# Altium footprint library LH_Traffic_Lignt_V2.0.PcbLib: 49 footprints (part 3 of 4)
Each footprint in its own frame and in the unit in brackets; x right, y up, seen from the top. Pads: shape width x height; smd on the part's side, far side on the other; paste and mask are expansions set on the pad; w line width, h text height; cw(c..) or ccw(c..) is an arc to the next point about the centre after c.
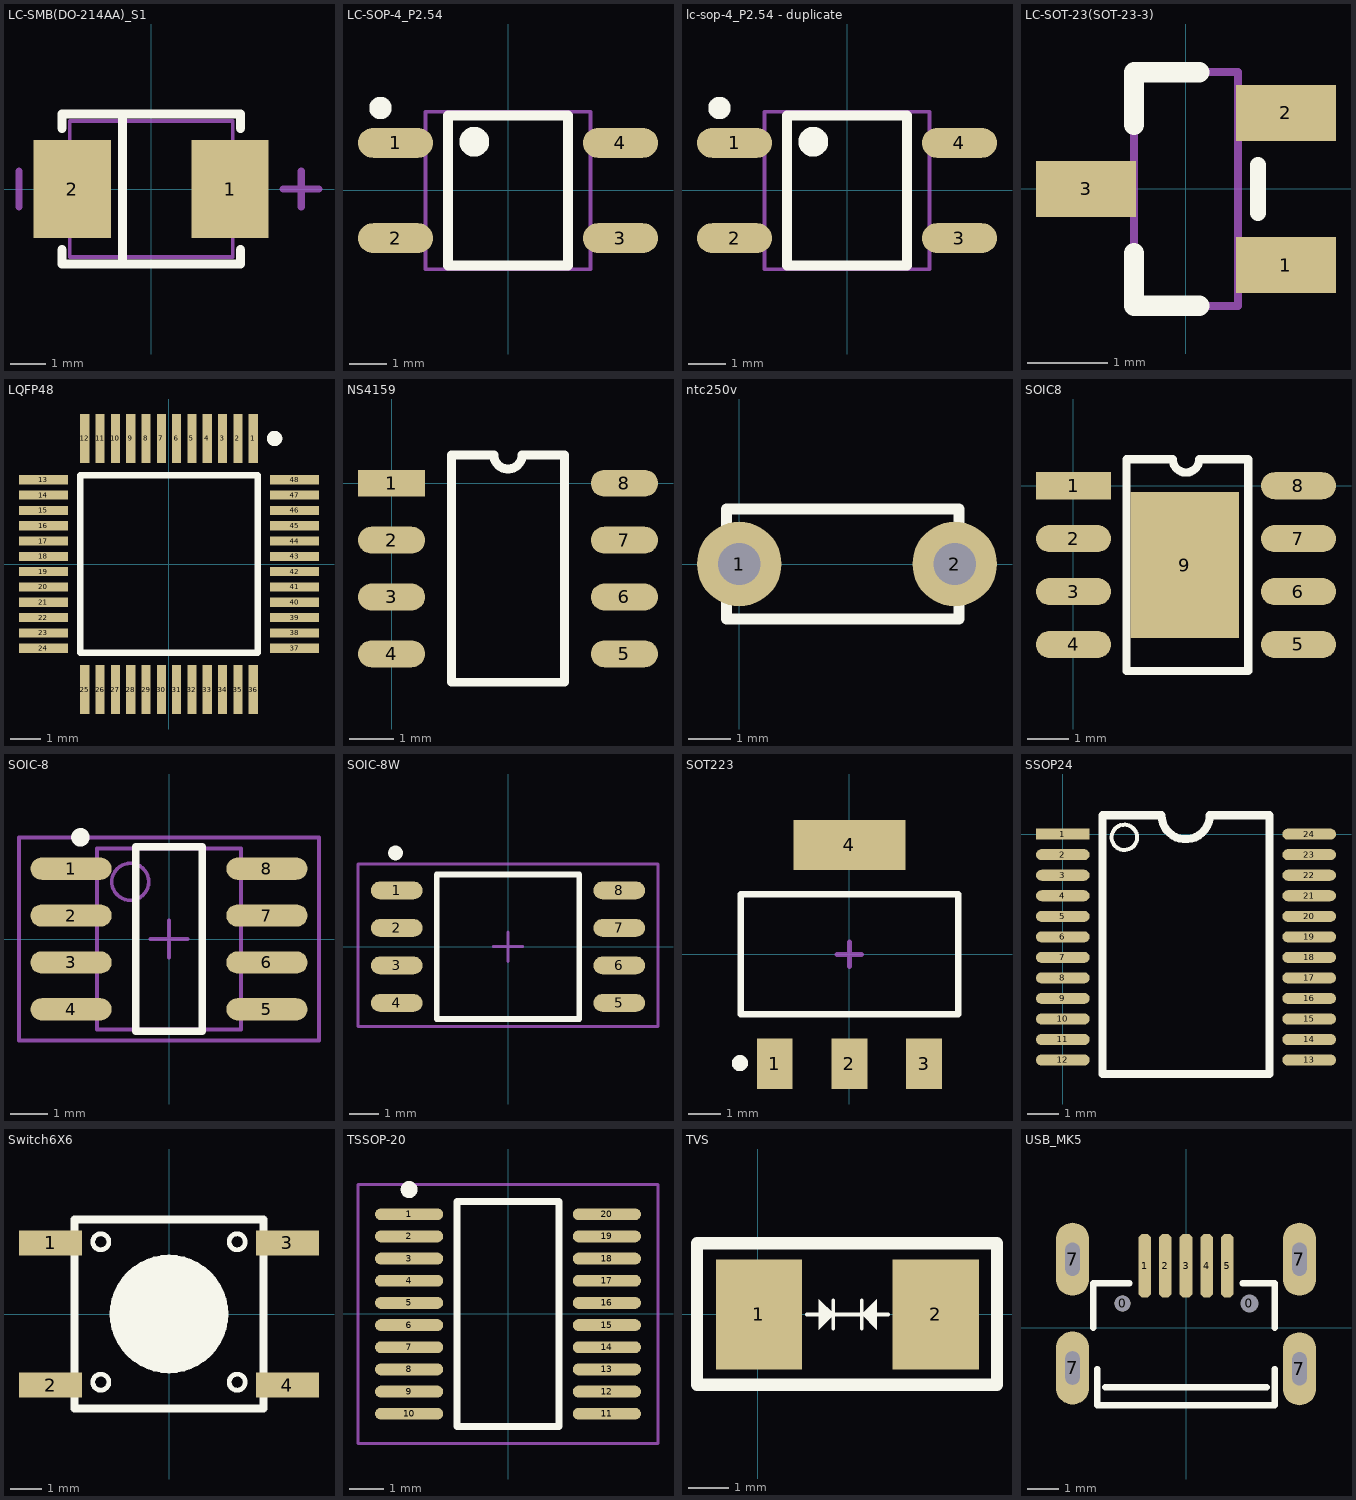
[diagram p2: the footprints below, top view; thin cyan lines are the x and y axes]

## LC-SMB(DO-214AA)_S1 [mm]
height 3.9
pads (2):
  rect 2.159x2.743 smd: 1(2.21,0) 2(-2.21,0)
Top Overlay:
  lines w0.254: -2.5,-1.7 -2.5,-2.1 2.5,-2.1 2.5,-1.7 ; -2.5,1.7 -2.5,2.1 2.5,2.1 2.5,1.7 ; -0.8,-2.1 -0.8,2.1
Mechanical 13:
  lines w0.1: -2.285,-1.905 2.285,-1.905 2.285,1.905 -2.285,1.905 -2.285,-1.905
Mechanical 15:
  lines w0.203: -3.7,-0.5 -3.7,0.5 ; 3.7,0 4.7,0 ; 4.2,-0.5 4.2,0.5

## LC-SOP-4_P2.54 [mm]
pads (4):
  oval 2x0.8 smd: 1(-3,1.27) 2(-3,-1.27) 3(3,-1.27) 4(3,1.27)
Top Overlay:
  circle w0.3: c-3.4,2.2 r0.15
  circle w0.4: c-0.9,1.3 r0.2
  lines w0.254: -1.6,-2 -1.6,2 1.6,2 1.6,-2 -1.6,-2
Mechanical 13:
  lines w0.1: -2.2,-2.1 -2.2,2.1 2.2,2.1 2.2,-2.1 -2.2,-2.1

## lc-sop-4_P2.54 - duplicate [mm]
pads (4):
  oval 2x0.8 smd: 1(-3,1.27) 2(-3,-1.27) 3(3,-1.27) 4(3,1.27)
Top Overlay:
  circle w0.4: c-0.9,1.3 r0.2
  circle w0.3: c-3.4,2.2 r0.15
  lines w0.254: -1.6,-2 1.6,-2 1.6,2 -1.6,2 -1.6,-2
Mechanical 13:
  lines w0.1: -2.2,-2.1 2.2,-2.1 2.2,2.1 -2.2,2.1 -2.2,-2.1

## LC-SOT-23(SOT-23-3) [mm]
height 3.9
pads (3):
  rect 1.25x0.7 smd: 1(1.25,-0.95) 2(1.25,0.95) 3(-1.25,0)
Top Overlay:
  lines w0.2: 0.9,-0.3 0.9,0.3
  lines w0.254: -0.65,-0.8 -0.65,-1.46 0.165,-1.46 ; 0.165,1.46 -0.65,1.46 ; -0.65,0.8 -0.65,1.46 ; -0.65,0.8 -0.65,1.46 ; -0.65,0.8 -0.65,1.46
Mechanical 13:
  lines w0.1: -0.65,-1.46 -0.65,1.46 ; -0.65,-1.46 0.65,-1.46 ; -0.65,-1.46 0.65,-1.46 ; -0.65,-1.46 -0.65,1.46 ; -0.65,-1.46 0.65,-1.46 ; -0.65,-1.46 -0.65,1.46 ; -0.65,1.46 0.65,1.46 ; -0.65,1.46 0.65,1.46 ; -0.65,1.46 0.65,1.46 ; 0.65,-1.46 0.65,1.46 ; 0.65,-1.46 0.65,1.46 ; 0.65,-1.46 0.65,1.46
3D body "SOT-23.step": height 1.3, standoff 0, extent -1.5,-1.5 1.5,1.5

## LQFP48 [mm]
height 3.9
pads (48):
  rect 0.3x1.6 smd: 1(2.75,4.1) 2(2.25,4.1) 3(1.75,4.1) 4(1.25,4.1) 5(0.75,4.1) 6(0.25,4.1) 7(-0.25,4.1) 8(-0.75,4.1) 9(-1.25,4.1) 10(-1.75,4.1) 11(-2.25,4.1) 12(-2.75,4.1) 25(-2.75,-4.1) 26(-2.25,-4.1) 27(-1.75,-4.1) 28(-1.25,-4.1) 29(-0.75,-4.1) 30(-0.25,-4.1) 31(0.25,-4.1) 32(0.75,-4.1) 33(1.25,-4.1) 34(1.75,-4.1) 35(2.25,-4.1) 36(2.75,-4.1)
  rect 1.6x0.3 smd: 13(-4.1,2.75) 14(-4.1,2.25) 15(-4.1,1.75) 16(-4.1,1.25) 17(-4.1,0.75) 18(-4.1,0.25) 19(-4.1,-0.25) 20(-4.1,-0.75) 21(-4.1,-1.25) 22(-4.1,-1.75) 23(-4.1,-2.25) 24(-4.1,-2.75) 37(4.1,-2.75) 38(4.1,-2.25) 39(4.1,-1.75) 40(4.1,-1.25) 41(4.1,-0.75) 42(4.1,-0.25) 43(4.1,0.25) 44(4.1,0.75) 45(4.1,1.25) 46(4.1,1.75) 47(4.1,2.25) 48(4.1,2.75)
Top Overlay:
  circle w0.25: c3.45,4.1 r0.125
  lines w0.2: -2.9,-2.9 2.9,-2.9 2.9,2.9 -2.9,2.9 -2.9,-2.9

## NS4159 [mm]
height 3.9
pads (8):
  rect 1.5x0.6 smd: 1(0,0)
  oval 1.5x0.6 smd: 2(0,-1.27) 3(0,-2.54) 4(0,-3.81) 5(5.2,-3.81) 6(5.2,-2.54) 7(5.2,-1.27) 8(5.2,0)
Top Overlay:
  lines w0.2: 1.335,-4.445 1.335,0.635 2.282,0.635 ccw(c2.6,0.635) 2.917,0.635 3.865,0.635 3.865,-4.445 1.335,-4.445

## ntc250v [mm]
height 10
pads (2):
  round 2 hole 1: 1(0,0) 2(5.1,0)
Top Overlay:
  lines w0.254: -0.3,-1.3 -0.3,1.3 5.2,1.3 5.2,-1.3 -0.3,-1.3

## SOIC8 [mm]
height 3.9
pads (9):
  rect 1.8x0.65 smd: 1(0,0)
  oval 1.8x0.65 smd: 2(0,-1.27) 3(0,-2.54) 4(0,-3.81) 5(5.4,-3.81) 6(5.4,-2.54) 7(5.4,-1.27) 8(5.4,0)
  rect 2.6x3.51 smd: 9(2.667,-1.905)
Top Overlay:
  lines w0.2: 1.27,-4.445 1.27,-3.175 1.27,-0.635 1.27,0.635 2.382,0.635 ccw(c2.7,0.635) 3.017,0.635 4.191,0.635 4.191,-4.445 1.27,-4.445

## SOIC-8 [mm]
height 1.75
pads (8):
  oval 2.2x0.6 smd: 1(-2.654,1.905) 2(-2.654,0.635) 3(-2.654,-0.635) 4(-2.654,-1.905) 5(2.654,-1.905) 6(2.654,-0.635) 7(2.654,0.635) 8(2.654,1.905)
Top Overlay:
  circle w0.25: c-2.4,2.755 r0.125
  lines w0.2: -0.9,-2.5 0.9,-2.5 0.9,2.5 -0.9,2.5 -0.9,-2.5
Mechanical 13:
  circle w0.1: c-1.05,1.55 r0.5
  lines w0.1: -1.95,-2.45 1.95,-2.45 1.95,2.45 -1.95,2.45 -1.95,-2.45
Mechanical 15:
  lines w0.1: -0.5,0 0.5,0 ; 0,-0.5 0,0.5 ; -4.064,-2.75 4.064,-2.75 4.064,2.75 -4.064,2.75 -4.064,-2.75
3D body "SO-8.STEP": height 1.7, standoff 0, extent -3,-2.45 3,2.45

## SOIC-8W [mm] "SPI_FLASH"
height 1.75
pads (8):
  oval 1.75x0.6 smd: 1(-3.768,1.905) 2(-3.768,0.635) 3(-3.768,-0.635) 4(-3.768,-1.905) 5(3.768,-1.905) 6(3.768,-0.635) 7(3.768,0.635) 8(3.768,1.905)
Top Overlay:
  circle w0.25: c-3.808,3.175 r0.125
  lines w0.2: -2.413,-2.45 2.413,-2.45 2.413,2.45 -2.413,2.45 -2.413,-2.45
Mechanical 15:
  lines w0.1: -0.5,0 0.5,0 ; 0,-0.5 0,0.5 ; -5.08,-2.7 5.08,-2.7 5.08,2.794 -5.08,2.794 -5.08,-2.7

## SOT223 [mm]
height 1.8
pads (4):
  rect 1.1x1.55 smd: 1(-2.3,-3.375) 2(0,-3.375) 3(2.3,-3.375)
  rect 3.45x1.55 smd: 4(0,3.375)
Top Overlay:
  circle w0.25: c-3.376,-3.353 r0.125
  lines w0.2: -3.35,-1.85 -3.35,1.85 3.35,1.85 3.35,-1.85 -3.35,-1.85
Mechanical 15:
  lines w0.15: -0.381,0 0.381,0 ; 0,-0.381 0,0.381
3D body "SOT223.STEP": height 1.7, standoff 0, extent -3.25,-3.48 3.25,3.48

## SSOP24 [mm]
height 3.9
pads (24):
  rect 1.7x0.35 smd: 1(0,0)
  oval 1.7x0.35 smd: 2(0,-0.65) 3(0,-1.3) 4(0,-1.95) 5(0,-2.6) 6(0,-3.25) 7(0,-3.9) 8(0,-4.55) 9(0,-5.2) 10(0,-5.85) 11(0,-6.5) 12(0,-7.15) 13(7.8,-7.15) 14(7.8,-6.5) 15(7.8,-5.85) 16(7.8,-5.2) 17(7.8,-4.55) 18(7.8,-3.9) 19(7.8,-3.25) 20(7.8,-2.6) 21(7.8,-1.95) 22(7.8,-1.3) 23(7.8,-0.65) 24(7.8,0)
Top Overlay:
  circle w0.127: c1.948,-0.1 r0.402
  lines w0.254: 1.25,-7.6 1.25,0.6 3.126,0.6 ccw(c3.888,0.6) 4.65,0.6 6.55,0.6 6.55,-7.6 1.25,-7.6

## Switch6X6 [mm]
height 3.9
pads (4):
  rect 2x0.8 smd: 1(-3.75,2.25) 2(-3.75,-2.25) 3(3.75,2.25) 4(3.75,-2.25)
Top Overlay:
  circle w0.152: c2.159,-2.159 r0.254
  circle w0.152: c-2.159,-2.159 r0.254
  circle w0.152: c2.159,2.286 r0.254
  circle w0.152: c-2.159,2.286 r0.254
  circle w0.254: c0,0 r1.75
  region: -1.758,-0.025 -1.725,-0.368 -1.625,-0.698 -1.462,-1.002 -1.243,-1.269 -0.977,-1.488 -0.673,-1.65 -0.343,-1.75 0,-1.784 0.343,-1.75 0.673,-1.65 0.977,-1.488 1.243,-1.269 1.462,-1.002 1.625,-0.698 1.725,-0.368 1.758,-0.025 1.725,0.318 1.625,0.648 1.462,0.952 1.243,1.218 0.977,1.437 0.673,1.599 0.343,1.699 0,1.733 -0.343,1.699 -0.673,1.599 -0.977,1.437 -1.243,1.218 -1.462,0.952 -1.625,0.648 -1.725,0.318
  lines w0.254: -3,-3 3,-3 3,3 -3,3 -3,-3

## TSSOP-20 [mm]
height 1.1
pads (20):
  oval 2x0.35 smd: 1(-2.9,2.925) 2(-2.9,2.275) 3(-2.9,1.625) 4(-2.9,0.975) 5(-2.9,0.325) 6(-2.9,-0.325) 7(-2.9,-0.975) 8(-2.9,-1.625) 9(-2.9,-2.275) 10(-2.9,-2.925) 11(2.9,-2.925) 12(2.9,-2.275) 13(2.9,-1.625) 14(2.9,-0.975) 15(2.9,-0.325) 16(2.9,0.325) 17(2.9,0.975) 18(2.9,1.625) 19(2.9,2.275) 20(2.9,2.925)
Top Overlay:
  circle w0.25: c-2.9,3.65 r0.125
  lines w0.2: -1.5,-3.3 -1.5,3.3 1.5,3.3 1.5,-3.3 -1.5,-3.3
Mechanical 15:
  lines w0.1: -4.4,-3.8 -4.4,3.8 4.4,3.8 4.4,-3.8 -4.4,-3.8

## TVS [mil]
height 153.54
pads (2):
  rect 85x107.99 smd: 1(0.98,0) 2(175,0)
Top Overlay:
  region: 60,15 75,0 60,-15
  region: 117,-15 102,0 117,15
  lines w3.6: 48,0 128,0 ; 74,-14 74,14 ; 102,-14 102,14
  lines w12: -60,-69.06 235.13,-69.06 235.13,70 -60,70 -60,-69.06

## USB_MK5 [mm]
pads (11):
  round 0.5 hole 0.5: 0(-2,0.762)
  round 0.5 hole 0.56: 0(2,0.762)
  oct 0.4x2 smd: 1(-1.3,1.95) 2(-0.65,1.95) 3(0,1.95) 4(0.65,1.95) 5(1.3,1.95)
  oval 1.05x2.3 hole 0.45 slot 1.05 at 90 deg: 7(-3.575,-1.27) 7(-3.575,2.155) 7(3.575,-1.295) 7(3.575,2.155)
Top Overlay:
  lines w0.2: -2.921,0 -2.921,1.397 -1.778,1.397 ; -2.794,-1.302 -2.794,-2.445 2.794,-2.445 2.794,-1.302 ; -2.54,-1.88 2.54,-1.88 ; 1.778,1.397 2.794,1.397 2.794,0